# Altium footprint library XH2.54.PcbLib: 64 footprints (part 4 of 4)
Each footprint in its own frame and in the unit in brackets; x right, y up, seen from the top. Pads: shape width x height; smd on the part's side, far side on the other; paste and mask are expansions set on the pad; w line width, h text height; cw(c..) or ccw(c..) is an arc to the next point about the centre after c.
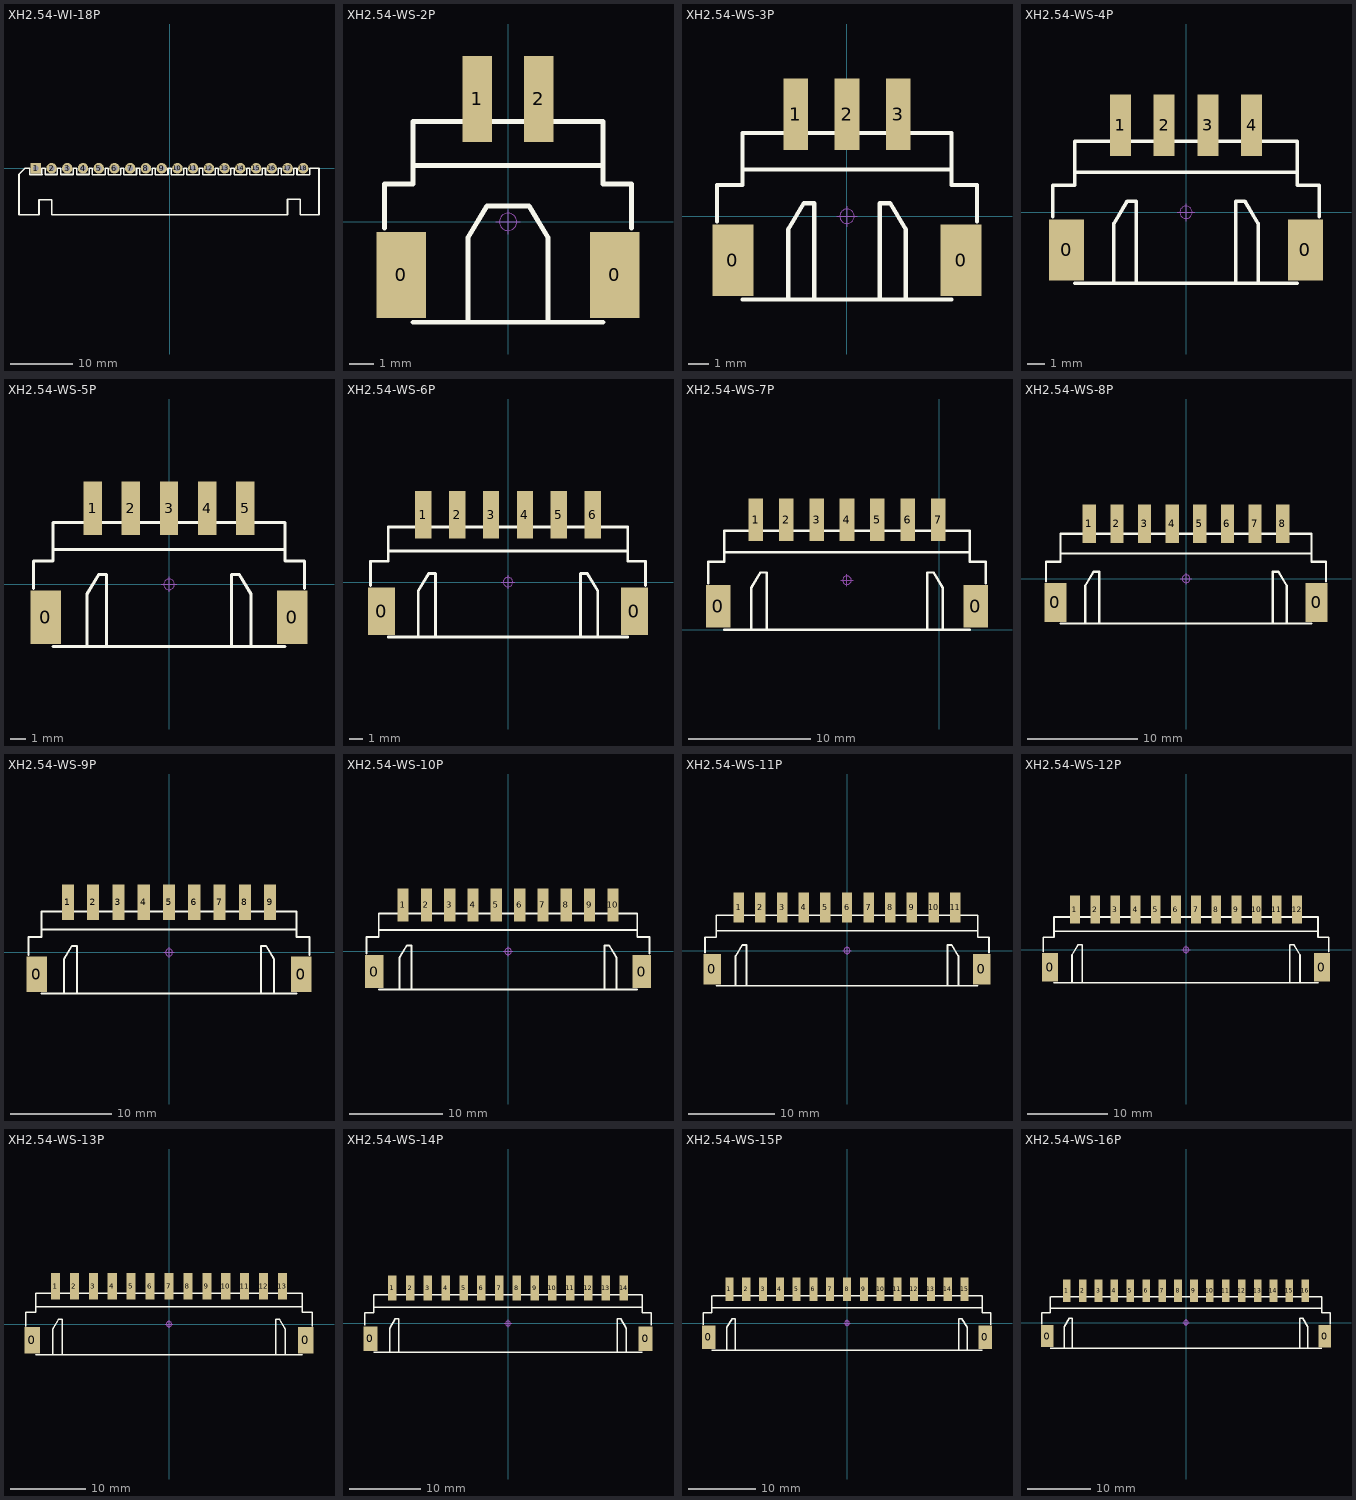
[diagram p3: the footprints below, top view; thin cyan lines are the x and y axes]

## XH2.54-WI-18P [mm] "接插件，18P"
pads (18):
  rect 1.7x1.7 hole 0.9: 1(-21.59,0)
  round 1.7 hole 0.9: 2(-19.05,0) 3(-16.51,0) 4(-13.97,0) 5(-11.43,0) 6(-8.89,0) 7(-6.35,0) 8(-3.81,0) 9(-1.27,0) 10(1.27,0) 11(3.81,0) 12(6.35,0) 13(8.89,0) 14(11.43,0) 15(13.97,0) 16(16.51,0) 17(19.05,0) 18(21.59,0)
Top Overlay:
  lines w0.254: -18.156,0 -18.156,-0.988 -18.17,-1.002 -20.036,-1.002 -20.036,0 -20.608,0 -20.608,-0.982 -20.594,-0.996 -22.55,-0.996 -22.564,-0.982 -22.564,0 -23.34,0 -23.922,-0.582 -24.306,-0.966 -24.306,-7.502 -24.28,-7.528 -21.082,-7.528 -21.082,-5.058 -19.05,-5.058 -19.05,-7.502 19.05,-7.502 19.05,-5.006 21.082,-5.006 21.082,-7.49 24.13,-7.49 24.13,0 22.606,0 22.606,-1.016 20.574,-1.016 20.574,0 20.066,0 20.066,-1.016 18.034,-1.016 18.034,0 17.526,0 17.526,-1.016 15.494,-1.016 15.494,0 14.986,0 14.986,-1.016 12.954,-1.016 12.954,0 12.446,0 12.446,-1.016 10.414,-1.016 10.414,0 9.906,0 9.906,-1.016 7.874,-1.016 7.874,0 7.366,0 7.366,-1.016 5.334,-1.016 5.334,0 4.826,0 4.826,-1.016 2.794,-1.016 2.794,0 2.286,0 2.286,-1.016 0.254,-1.016 0.254,0 -0.254,0 -0.254,-1.016 -2.286,-1.016 -2.286,0 -2.794,0 -2.794,-1.016 -4.826,-1.016 -4.826,0 -5.334,0 -5.334,-1.016 -7.366,-1.016 -7.366,0 -7.874,0 -7.874,-1.016 -9.906,-1.016 -9.906,0 -10.414,0 -10.414,-1.016 -12.446,-1.016 -12.446,0 -12.954,0 -12.954,-1.002 -14.958,-1.002 -14.958,0 ; -18.144,0 -17.546,0 ; -17.532,-0.996 -17.532,0 ; -17.512,-0.996 -15.524,-0.996 -15.518,-0.99 -15.518,0 -14.972,0
3D body: height 5.75, standoff -3.35, extent -24.09,-7.35 21.55,0.35

## XH2.54-WS-2P [mm] "长：10mm，宽：8mm，高：6.1mm"
pads (4):
  rect 2x3.5 smd: 0(-4.327,-2.15) 0(4.327,-2.15)
  rect 1.2x3.5 smd: 1(-1.25,4.981) 2(1.25,4.981)
Top Overlay:
  lines w0.2: -5,-0.254 -5,1.536 -3.85,1.536 -3.85,4.064 3.85,4.064 3.85,1.536 5,1.536 5,-0.254 ; -3.85,-4.064 3.85,-4.064 ; -3.85,2.286 3.85,2.286 ; -1.62,-4.064 -1.62,-0.634 -0.858,0.636 -0.35,0.636 0.858,0.636 1.62,-0.634 1.62,-4.064
Mechanical 15:
  circle w0.05: c0,0 r0.35
  lines w0.05: -0.5,0 0.5,0 ; 0,-0.5 0,0.5
3D body: height 6.05, standoff -0.01, extent -5,-4 5,6.418

## XH2.54-WS-3P [mm] "长：12.5mm，宽：8mm，高：6.1mm"
pads (5):
  rect 2x3.5 smd: 0(-5.577,-2.15) 0(5.577,-2.15)
  rect 1.2x3.5 smd: 1(-2.5,4.981) 2(0,4.981) 3(2.5,4.981)
Top Overlay:
  lines w0.2: -6.35,-0.254 -6.35,1.536 -5.1,1.536 -5.1,4.064 5.1,4.064 5.1,1.536 6.35,1.536 6.35,-0.254 ; -5.1,-4.064 5.1,-4.064 ; -5.1,2.286 5.1,2.286 ; -2.87,-4.064 -2.87,-0.634 -2.108,0.636 -1.6,0.636 -1.6,-4.064 ; 1.6,-4.064 1.6,0.636 2.108,0.636 2.87,-0.634 2.87,-4.064
Mechanical 15:
  circle w0.05: c0,0 r0.35
  lines w0.05: -0.5,0 0.5,0 ; 0,-0.5 0,0.5
3D body: height 6.05, standoff -0.01, extent -6.25,-4 6.25,6.418

## XH2.54-WS-4P [mm] "长：15mm，宽：8mm，高：6.1mm"
pads (6):
  rect 2x3.5 smd: 0(-6.827,-2.15) 0(6.827,-2.15)
  rect 1.2x3.5 smd: 1(-3.75,4.981) 2(-1.25,4.981) 3(1.25,4.981) 4(3.75,4.981)
Top Overlay:
  lines w0.2: -7.62,-0.254 -7.62,1.536 -6.35,1.536 -6.35,4.064 6.35,4.064 6.35,1.536 7.62,1.536 7.62,-0.254 ; -6.35,-4.064 6.35,-4.064 ; -6.35,2.286 6.35,2.286 ; -4.12,-4.064 -4.12,-0.634 -3.358,0.636 -2.85,0.636 -2.85,-4.064 ; 2.85,-4.064 2.85,0.636 3.358,0.636 4.12,-0.634 4.12,-4.064
Mechanical 15:
  circle w0.05: c0,0 r0.35
  lines w0.05: -0.5,0 0.5,0 ; 0,-0.5 0,0.5
3D body: height 6.05, standoff -0.01, extent -7.5,-4 7.5,6.418

## XH2.54-WS-5P [mm] "长：17.5mm，宽：8mm，高：6.1mm"
pads (7):
  rect 2x3.5 smd: 0(-8.077,-2.15) 0(8.077,-2.15)
  rect 1.2x3.5 smd: 1(-5,4.981) 2(-2.5,4.981) 3(0,4.981) 4(2.5,4.981) 5(5,4.981)
Top Overlay:
  lines w0.2: -8.89,-0.254 -8.89,1.536 -7.6,1.536 -7.6,4.064 7.6,4.064 7.6,1.536 8.89,1.536 8.89,-0.254 ; -7.6,-4.064 7.6,-4.064 ; -7.6,2.286 7.6,2.286 ; -5.37,-4.064 -5.37,-0.634 -4.608,0.636 -4.1,0.636 -4.1,-4.064 ; 4.1,-4.064 4.1,0.636 4.608,0.636 5.37,-0.634 5.37,-4.064
Mechanical 15:
  circle w0.05: c0,0 r0.35
  lines w0.05: -0.5,0 0.5,0 ; 0,-0.5 0,0.5
3D body: height 6.05, standoff -0.01, extent -8.75,-4 8.75,6.418

## XH2.54-WS-6P [mm] "长：20mm，宽：8mm，高：6.1mm"
pads (8):
  rect 2x3.5 smd: 0(-9.327,-2.15) 0(9.327,-2.15)
  rect 1.2x3.5 smd: 1(-6.25,4.981) 2(-3.75,4.981) 3(-1.25,4.981) 4(1.25,4.981) 5(3.75,4.981) 6(6.25,4.981)
Top Overlay:
  lines w0.2: -10.16,-0.254 -10.16,1.536 -8.85,1.536 -8.85,4.064 8.85,4.064 8.85,1.536 10.16,1.536 10.16,-0.254 ; -8.85,-4.064 8.85,-4.064 ; -8.85,2.286 8.85,2.286 ; -6.62,-4.064 -6.62,-0.634 -5.858,0.636 -5.35,0.636 -5.35,-4.064 ; 5.35,-4.064 5.35,0.636 5.858,0.636 6.62,-0.634 6.62,-4.064
Mechanical 15:
  circle w0.05: c0,0 r0.35
  lines w0.05: -0.5,0 0.5,0 ; 0,-0.5 0,0.5
3D body: height 6.05, standoff -0.01, extent -10,-4 10,6.418

## XH2.54-WS-7P [mm] "长：22.5mm，宽：8mm，高：6.1mm"
pads (9):
  rect 2x3.5 smd: 0(-18.177,1.914) 0(2.977,1.914)
  rect 1.2x3.5 smd: 1(-15.1,9.045) 2(-12.6,9.045) 3(-10.1,9.045) 4(-7.6,9.045) 5(-5.1,9.045) 6(-2.6,9.045) 7(-0.1,9.045)
Top Overlay:
  lines w0.2: -19.01,3.81 -19.01,5.6 -17.7,5.6 -17.7,8.128 2.5,8.128 2.5,5.6 3.81,5.6 3.81,3.81 ; -17.7,0 2.5,0 ; -17.7,6.35 2.5,6.35 ; -15.47,0 -15.47,3.43 -14.708,4.7 -14.2,4.7 -14.2,0 ; -1,0 -1,4.7 -0.492,4.7 0.27,3.43 0.27,0
Mechanical 15:
  circle w0.05: c-7.6,4.064 r0.35
  lines w0.05: -8.1,4.064 -7.1,4.064 ; -7.6,3.564 -7.6,4.564
3D body: height 6.05, standoff -0.01, extent -18.85,0.064 3.65,10.482

## XH2.54-WS-8P [mm] "长：25mm，宽：8mm，高：6.1mm"
pads (10):
  rect 2x3.5 smd: 0(-11.827,-2.15) 0(11.827,-2.15)
  rect 1.2x3.5 smd: 1(-8.75,4.981) 2(-6.25,4.981) 3(-3.75,4.981) 4(-1.25,4.981) 5(1.25,4.981) 6(3.75,4.981) 7(6.25,4.981) 8(8.75,4.981)
Top Overlay:
  lines w0.2: -12.66,-0.254 -12.66,1.536 -11.35,1.536 -11.35,4.064 11.35,4.064 11.35,1.536 12.66,1.536 12.66,-0.254 ; -11.35,-4.064 11.35,-4.064 ; -11.35,2.286 11.35,2.286 ; -9.12,-4.064 -9.12,-0.634 -8.358,0.636 -7.85,0.636 -7.85,-4.064 ; 7.85,-4.064 7.85,0.636 8.358,0.636 9.12,-0.634 9.12,-4.064
Mechanical 15:
  circle w0.05: c0,0 r0.35
  lines w0.05: -0.5,0 0.5,0 ; 0,-0.5 0,0.5
3D body: height 6.05, standoff -0.01, extent -12.5,-4 12.5,6.418

## XH2.54-WS-9P [mm] "长：27.5mm，宽：8mm，高：6.1mm"
pads (11):
  rect 2x3.5 smd: 0(-13.077,-2.15) 0(13.077,-2.15)
  rect 1.2x3.5 smd: 1(-10,4.981) 2(-7.5,4.981) 3(-5,4.981) 4(-2.5,4.981) 5(0,4.981) 6(2.5,4.981) 7(5,4.981) 8(7.5,4.981) 9(10,4.981)
Top Overlay:
  lines w0.2: -13.91,-0.254 -13.91,1.536 -12.6,1.536 -12.6,4.064 12.6,4.064 12.6,1.536 13.91,1.536 13.91,-0.254 ; -12.6,-4.064 12.6,-4.064 ; -12.6,2.286 12.6,2.286 ; -10.37,-4.064 -10.37,-0.634 -9.608,0.636 -9.1,0.636 -9.1,-4.064 ; 9.1,-4.064 9.1,0.636 9.608,0.636 10.37,-0.634 10.37,-4.064
Mechanical 15:
  circle w0.05: c0,0 r0.35
  lines w0.05: -0.5,0 0.5,0 ; 0,-0.5 0,0.5
3D body: height 6.05, standoff -0.01, extent -13.75,-4 13.75,6.418

## XH2.54-WS-10P [mm] "长：30mm，宽：8mm，高：6.1mm"
pads (12):
  rect 2x3.5 smd: 0(-14.327,-2.15) 0(14.327,-2.15)
  rect 1.2x3.5 smd: 1(-11.25,4.981) 2(-8.75,4.981) 3(-6.25,4.981) 4(-3.75,4.981) 5(-1.25,4.981) 6(1.25,4.981) 7(3.75,4.981) 8(6.25,4.981) 9(8.75,4.981) 10(11.25,4.981)
Top Overlay:
  lines w0.2: -15.16,-0.254 -15.16,1.536 -13.85,1.536 -13.85,4.064 13.85,4.064 13.85,1.536 15.16,1.536 15.16,-0.254 ; -13.85,-4.064 13.85,-4.064 ; -13.85,2.286 13.85,2.286 ; -11.62,-4.064 -11.62,-0.634 -10.858,0.636 -10.35,0.636 -10.35,-4.064 ; 10.35,-4.064 10.35,0.636 10.858,0.636 11.62,-0.634 11.62,-4.064
Mechanical 15:
  circle w0.05: c0,0 r0.35
  lines w0.05: -0.5,0 0.5,0 ; 0,-0.5 0,0.5
3D body: height 6.05, standoff -0.01, extent -15,-4 15,6.418

## XH2.54-WS-11P [mm] "长：32.5mm，宽：8mm，高：6.1mm"
pads (13):
  rect 2x3.5 smd: 0(-15.577,-2.15) 0(15.577,-2.15)
  rect 1.2x3.5 smd: 1(-12.5,4.981) 2(-10,4.981) 3(-7.5,4.981) 4(-5,4.981) 5(-2.5,4.981) 6(0,4.981) 7(2.5,4.981) 8(5,4.981) 9(7.5,4.981) 10(10,4.981) 11(12.5,4.981)
Top Overlay:
  lines w0.2: -16.41,-0.254 -16.41,1.536 -15.1,1.536 -15.1,4.064 15.1,4.064 15.1,1.536 16.41,1.536 16.41,-0.254 ; -15.1,-4.064 15.1,-4.064 ; -15.1,2.286 15.1,2.286 ; -12.87,-4.064 -12.87,-0.634 -12.108,0.636 -11.6,0.636 -11.6,-4.064 ; 11.6,-4.064 11.6,0.636 12.108,0.636 12.87,-0.634 12.87,-4.064
Mechanical 15:
  circle w0.05: c0,0 r0.35
  lines w0.05: -0.5,0 0.5,0 ; 0,-0.5 0,0.5
3D body: height 6.05, standoff -0.01, extent -16.25,-4 16.25,6.418

## XH2.54-WS-12P [mm] "长：35mm，宽：8mm，高：6.1mm"
pads (14):
  rect 2x3.5 smd: 0(-16.827,-2.15) 0(16.827,-2.15)
  rect 1.2x3.5 smd: 1(-13.75,4.981) 2(-11.25,4.981) 3(-8.75,4.981) 4(-6.25,4.981) 5(-3.75,4.981) 6(-1.25,4.981) 7(1.25,4.981) 8(3.75,4.981) 9(6.25,4.981) 10(8.75,4.981) 11(11.25,4.981) 12(13.75,4.981)
Top Overlay:
  lines w0.2: -17.66,-0.254 -17.66,1.536 -16.35,1.536 -16.35,4.064 16.35,4.064 16.35,1.536 17.66,1.536 17.66,-0.254 ; -16.35,-4.064 16.35,-4.064 ; -16.35,2.286 16.35,2.286 ; -14.12,-4.064 -14.12,-0.634 -13.358,0.636 -12.85,0.636 -12.85,-4.064 ; 12.85,-4.064 12.85,0.636 13.358,0.636 14.12,-0.634 14.12,-4.064
Mechanical 15:
  circle w0.05: c0,0 r0.35
  lines w0.05: -0.5,0 0.5,0 ; 0,-0.5 0,0.5
3D body: height 6.05, standoff -0.01, extent -17.5,-4 17.5,6.418

## XH2.54-WS-13P [mm] "长：37.5mm，宽：8mm，高：6.1mm"
pads (15):
  rect 2x3.5 smd: 0(-18.077,-2.15) 0(18.077,-2.15)
  rect 1.2x3.5 smd: 1(-15,4.981) 2(-12.5,4.981) 3(-10,4.981) 4(-7.5,4.981) 5(-5,4.981) 6(-2.5,4.981) 7(0,4.981) 8(2.5,4.981) 9(5,4.981) 10(7.5,4.981) 11(10,4.981) 12(12.5,4.981) 13(15,4.981)
Top Overlay:
  lines w0.2: -18.91,-0.254 -18.91,1.536 -17.6,1.536 -17.6,4.064 17.6,4.064 17.6,1.536 18.91,1.536 18.91,-0.254 ; -17.6,-4.064 17.6,-4.064 ; -17.6,2.286 17.6,2.286 ; -15.37,-4.064 -15.37,-0.634 -14.608,0.636 -14.1,0.636 -14.1,-4.064 ; 14.1,-4.064 14.1,0.636 14.608,0.636 15.37,-0.634 15.37,-4.064
Mechanical 15:
  circle w0.05: c0,0 r0.35
  lines w0.05: -0.5,0 0.5,0 ; 0,-0.5 0,0.5
3D body: height 6.05, standoff -0.01, extent -18.75,-4 18.75,6.418

## XH2.54-WS-14P [mm] "长：40mm，宽：8mm，高：6.1mm"
pads (16):
  rect 2x3.5 smd: 0(-19.327,-2.15) 0(19.327,-2.15)
  rect 1.2x3.5 smd: 1(-16.25,4.981) 2(-13.75,4.981) 3(-11.25,4.981) 4(-8.75,4.981) 5(-6.25,4.981) 6(-3.75,4.981) 7(-1.25,4.981) 8(1.25,4.981) 9(3.75,4.981) 10(6.25,4.981) 11(8.75,4.981) 12(11.25,4.981) 13(13.75,4.981) 14(16.25,4.981)
Top Overlay:
  lines w0.2: -20.16,-0.254 -20.16,1.536 -18.85,1.536 -18.85,4.064 18.85,4.064 18.85,1.536 20.16,1.536 20.16,-0.254 ; -18.85,-4.064 18.85,-4.064 ; -18.85,2.286 18.85,2.286 ; -16.62,-4.064 -16.62,-0.634 -15.858,0.636 -15.35,0.636 -15.35,-4.064 ; 15.35,-4.064 15.35,0.636 15.858,0.636 16.62,-0.634 16.62,-4.064
Mechanical 15:
  circle w0.05: c0,0 r0.35
  lines w0.05: -0.5,0 0.5,0 ; 0,-0.5 0,0.5
3D body: height 6.05, standoff -0.01, extent -20,-4 20,6.418

## XH2.54-WS-15P [mm] "长：42.5mm，宽：8mm，高：6.1mm"
pads (17):
  rect 2x3.5 smd: 0(-20.577,-2.131) 0(20.577,-2.15)
  rect 1.2x3.5 smd: 1(-17.5,5) 2(-15,5) 3(-12.5,5) 4(-10,5) 5(-7.5,5) 6(-5,5) 7(-2.5,5) 8(0,5) 9(2.5,5) 10(5,5) 11(7.5,5) 12(10,5) 13(12.5,5) 14(15,5) 15(17.5,5)
Top Overlay:
  lines w0.2: -21.41,-0.254 -21.41,1.536 -20.1,1.536 -20.1,4.064 ; -20.1,-4.064 20.1,-4.064 ; -20.1,2.286 20.1,2.286 ; -20,4.064 20.1,4.064 20.1,1.536 21.41,1.536 21.41,-0.254 ; -17.87,-4.064 -17.87,-0.634 -17.108,0.636 -16.6,0.636 -16.6,-4.064 ; 16.6,-4.064 16.6,0.636 17.108,0.636 17.87,-0.634 17.87,-4.064
Mechanical 15:
  circle w0.05: c0,0 r0.35
  lines w0.05: -0.5,0 0.5,0 ; 0,-0.5 0,0.5
3D body: height 6.05, standoff -0.01, extent -21.25,-4 21.25,6.418

## XH2.54-WS-16P [mm] "长：45mm，宽：8mm，高：6.1mm"
pads (18):
  rect 2x3.5 smd: 0(-21.827,-2.131) 0(21.827,-2.15)
  rect 1.2x3.5 smd: 1(-18.75,5) 2(-16.25,5) 3(-13.75,5) 4(-11.25,5) 5(-8.75,5) 6(-6.25,5) 7(-3.75,5) 8(-1.25,5) 9(1.25,5) 10(3.75,5) 11(6.25,5) 12(8.75,5) 13(11.25,5) 14(13.75,5) 15(16.25,5) 16(18.75,5)
Top Overlay:
  lines w0.2: -22.66,-0.254 -22.66,1.536 -21.35,1.536 -21.35,4.064 ; -21.35,-4.064 21.35,-4.064 ; -21.35,2.286 21.35,2.286 ; -21.25,4.064 21.35,4.064 21.35,1.536 22.66,1.536 22.66,-0.254 ; -19.12,-4.064 -19.12,-0.634 -18.358,0.636 -17.85,0.636 -17.85,-4.064 ; 17.85,-4.064 17.85,0.636 18.358,0.636 19.12,-0.634 19.12,-4.064
Mechanical 15:
  circle w0.05: c0,0 r0.35
  lines w0.05: -0.5,0 0.5,0 ; 0,-0.5 0,0.5
3D body: height 6.05, standoff -0.01, extent -22.5,-4 22.5,6.418